# Altium schematic symbol library power.SchLib: 101 symbols
Pins are listed as number, name and electrical type; pins without a type are passive.

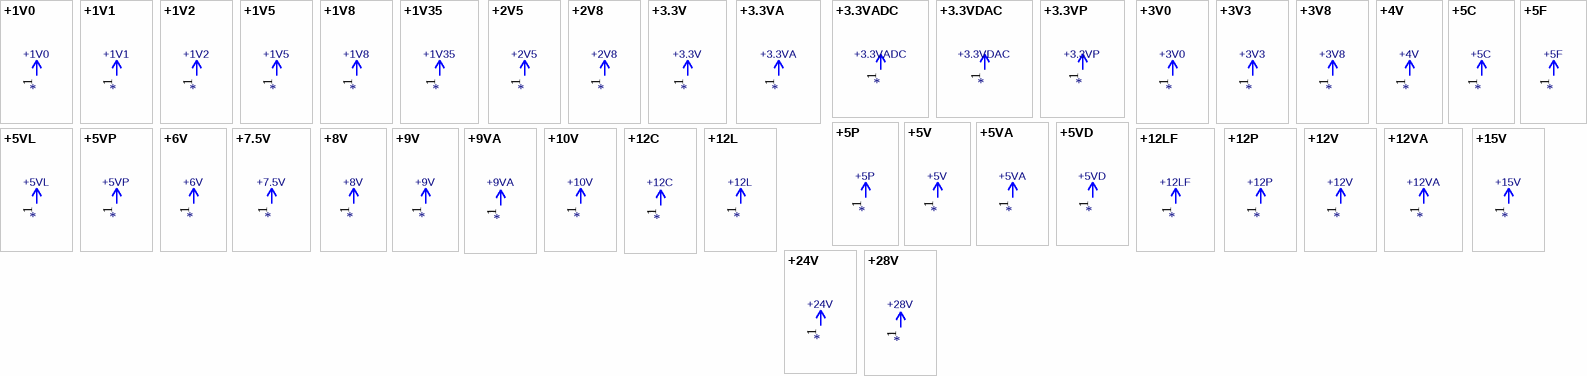
[diagram p0: symbols +1V0 to +28V]

## +1V0
designator *  value +1V0
ki_keywords: power-flag; ki_description: Power symbol creates a global label with name "+1V0"
pins: 1 +1V0 (power)

## +1V1
designator *  value +1V1
ki_keywords: power-flag; ki_description: Power symbol creates a global label with name "+1V1"
pins: 1 +1V1 (power)

## +1V2
designator *  value +1V2
ki_keywords: power-flag; ki_description: Power symbol creates a global label with name "+1V2"
pins: 1 +1V2 (power)

## +1V5
designator *  value +1V5
ki_keywords: power-flag; ki_description: Power symbol creates a global label with name "+1V5"
pins: 1 +1V5 (power)

## +1V8
designator *  value +1V8
ki_keywords: power-flag; ki_description: Power symbol creates a global label with name "+1V8"
pins: 1 +1V8 (power)

## +1V35
designator *  value +1V35
ki_keywords: power-flag; ki_description: Power symbol creates a global label with name "+1V35"
pins: 1 +1V35 (power)

## +2V5
designator *  value +2V5
ki_keywords: power-flag; ki_description: Power symbol creates a global label with name "+2V5"
pins: 1 +2V5 (power)

## +2V8
designator *  value +2V8
ki_keywords: power-flag; ki_description: Power symbol creates a global label with name "+2V8"
pins: 1 +2V8 (power)

## +3.3V
designator *  value +3.3V
ki_keywords: power-flag; ki_description: Power symbol creates a global label with name "+3.3V"
pins: 1 +3.3V (power)

## +3.3VA
designator *  value +3.3VA
ki_keywords: power-flag; ki_description: Power symbol creates a global label with name "+3.3VA"
pins: 1 +3.3VA (power)

## +3.3VADC
designator *  value +3.3VADC
ki_keywords: power-flag; ki_description: Power symbol creates a global label with name "+3.3VADC"
pins: 1 +3.3VADC (power)

## +3.3VDAC
designator *  value +3.3VDAC
ki_keywords: power-flag; ki_description: Power symbol creates a global label with name "+3.3VDAC"
pins: 1 +3.3VDAC (power)

## +3.3VP
designator *  value +3.3VP
ki_keywords: power-flag; ki_description: Power symbol creates a global label with name "+3.3VP"
pins: 1 +3.3VP (power)

## +3V0
designator *  value +3V0
ki_keywords: power-flag; ki_description: Power symbol creates a global label with name "+3V0"
pins: 1 +3V0 (power)

## +3V3
designator *  value +3V3
ki_keywords: power-flag; ki_description: Power symbol creates a global label with name "+3V3"
pins: 1 +3V3 (power)

## +3V8
designator *  value +3V8
ki_keywords: power-flag; ki_description: Power symbol creates a global label with name "+3V8"
pins: 1 +3V8 (power)

## +4V
designator *  value +4V
ki_keywords: power-flag; ki_description: Power symbol creates a global label with name "+4V"
pins: 1 +4V (power)

## +5C
designator *  value +5C
ki_keywords: power-flag; ki_description: Power symbol creates a global label with name "+5C"
pins: 1 +5C (power)

## +5F
designator *  value +5F
ki_keywords: power-flag; ki_description: Power symbol creates a global label with name "+5F"
pins: 1 +5F (power)

## +5P
designator *  value +5P
ki_keywords: power-flag; ki_description: Power symbol creates a global label with name "+5P"
pins: 1 +5P (power)

## +5V
designator *  value +5V
ki_keywords: power-flag; ki_description: Power symbol creates a global label with name "+5V"
pins: 1 +5V (power)

## +5VA
designator *  value +5VA
ki_keywords: power-flag; ki_description: Power symbol creates a global label with name "+5VA"
pins: 1 +5VA (power)

## +5VD
designator *  value +5VD
ki_keywords: power-flag; ki_description: Power symbol creates a global label with name "+5VD"
pins: 1 +5VD (power)

## +5VL
designator *  value +5VL
ki_keywords: power-flag; ki_description: Power symbol creates a global label with name "+5VL"
pins: 1 +5VL (power)

## +5VP
designator *  value +5VP
ki_keywords: power-flag; ki_description: Power symbol creates a global label with name "+5VP"
pins: 1 +5VP (power)

## +6V
designator *  value +6V
ki_keywords: power-flag; ki_description: Power symbol creates a global label with name "+6V"
pins: 1 +6V (power)

## +7.5V
designator *  value +7.5V
ki_keywords: power-flag; ki_description: Power symbol creates a global label with name "+7.5V"
pins: 1 +7.5V (power)

## +8V
designator *  value +8V
ki_keywords: power-flag; ki_description: Power symbol creates a global label with name "+8V"
pins: 1 +8V (power)

## +9V
designator *  value +9V
ki_keywords: power-flag; ki_description: Power symbol creates a global label with name "+9V"
pins: 1 +9V (power)

## +9VA
designator *  value +9VA
ki_keywords: power-flag; ki_description: Power symbol creates a global label with name "+9VA"
pins: 1 +9VA (power)

## +10V
designator *  value +10V
ki_keywords: power-flag; ki_description: Power symbol creates a global label with name "+10V"
pins: 1 +10V (power)

## +12C
designator *  value +12C
ki_keywords: power-flag; ki_description: Power symbol creates a global label with name "+12C"
pins: 1 +12C (power)

## +12L
designator *  value +12L
ki_keywords: power-flag; ki_description: Power symbol creates a global label with name "+12L"
pins: 1 +12L (power)

## +12LF
designator *  value +12LF
ki_keywords: power-flag; ki_description: Power symbol creates a global label with name "+12LF"
pins: 1 +12LF (power)

## +12P
designator *  value +12P
ki_keywords: power-flag; ki_description: Power symbol creates a global label with name "+12P"
pins: 1 +12P (power)

## +12V
designator *  value +12V
ki_keywords: power-flag; ki_description: Power symbol creates a global label with name "+12V"
pins: 1 +12V (power)

## +12VA
designator *  value +12VA
ki_keywords: power-flag; ki_description: Power symbol creates a global label with name "+12VA"
pins: 1 +12VA (power)

## +15V
designator *  value +15V
ki_keywords: power-flag; ki_description: Power symbol creates a global label with name "+15V"
pins: 1 +15V (power)

## +24V
designator *  value +24V
ki_keywords: power-flag; ki_description: Power symbol creates a global label with name "+24V"
pins: 1 +24V (power)

## +28V
designator *  value +28V
ki_keywords: power-flag; ki_description: Power symbol creates a global label with name "+28V"
pins: 1 +28V (power)

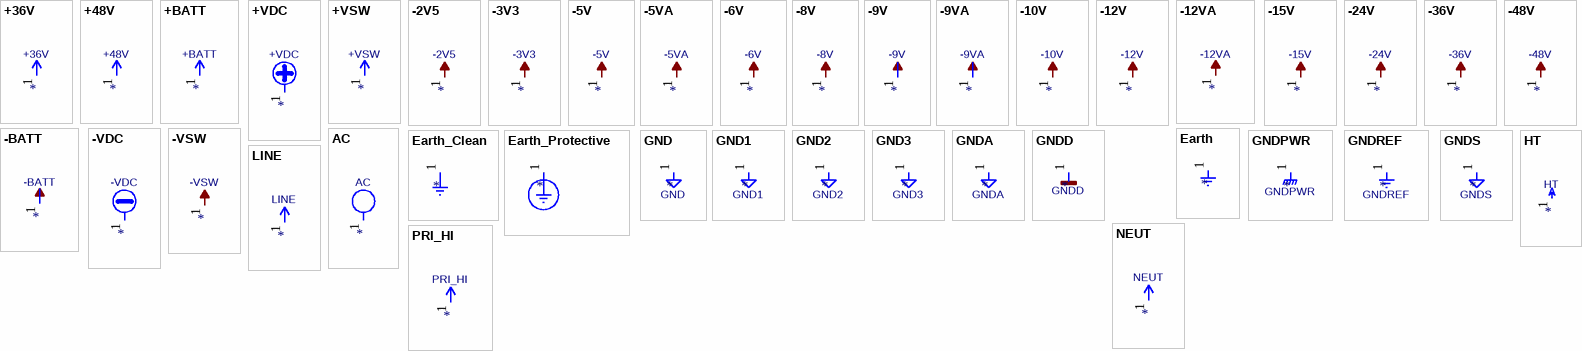
[diagram p1: symbols +36V to PRI_HI]

## +36V
designator *  value +36V
ki_keywords: power-flag; ki_description: Power symbol creates a global label with name "+36V"
pins: 1 +36V (power)

## +48V
designator *  value +48V
ki_keywords: power-flag; ki_description: Power symbol creates a global label with name "+48V"
pins: 1 +48V (power)

## +BATT
designator *  value +BATT
ki_keywords: power-flag battery; ki_description: Power symbol creates a global label with name "+BATT"
pins: 1 +BATT (power)

## +VDC
designator *  value +VDC
ki_keywords: power-flag; ki_description: Power symbol creates a global label with name "+VDC"
pins: 1 +VDC (power)

## +VSW
designator *  value +VSW
ki_keywords: power-flag; ki_description: Power symbol creates a global label with name "+VSW"
pins: 1 +VSW (power)

## -2V5
designator *  value -2V5
ki_keywords: power-flag; ki_description: Power symbol creates a global label with name "-2V5"
pins: 1 -2V5 (power)

## -3V3
designator *  value -3V3
ki_keywords: power-flag; ki_description: Power symbol creates a global label with name "-3V3"
pins: 1 -3V3 (power)

## -5V
designator *  value -5V
ki_keywords: power-flag; ki_description: Power symbol creates a global label with name "-5V"
pins: 1 -5V (power)

## -5VA
designator *  value -5VA
ki_keywords: power-flag; ki_description: Power symbol creates a global label with name "-5VA"
pins: 1 -5VA (power)

## -6V
designator *  value -6V
ki_keywords: power-flag; ki_description: Power symbol creates a global label with name "-6V"
pins: 1 -6V (power)

## -8V
designator *  value -8V
ki_keywords: power-flag; ki_description: Power symbol creates a global label with name "-8V"
pins: 1 -8V (power)

## -9V
designator *  value -9V
ki_keywords: power-flag; ki_description: Power symbol creates a global label with name "-9V"
pins: 1 -9V (power)

## -9VA
designator *  value -9VA
ki_keywords: power-flag; ki_description: Power symbol creates a global label with name "-9VA"
pins: 1 -9VA (power)

## -10V
designator *  value -10V
ki_keywords: power-flag; ki_description: Power symbol creates a global label with name "-10V"
pins: 1 -10V (power)

## -12V
designator *  value -12V
ki_keywords: power-flag; ki_description: Power symbol creates a global label with name "-12V"
pins: 1 -12V (power)

## -12VA
designator *  value -12VA
ki_keywords: power-flag; ki_description: Power symbol creates a global label with name "-12VA"
pins: 1 -12VA (power)

## -15V
designator *  value -15V
ki_keywords: power-flag; ki_description: Power symbol creates a global label with name "-15V"
pins: 1 -15V (power)

## -24V
designator *  value -24V
ki_keywords: power-flag; ki_description: Power symbol creates a global label with name "-24V"
pins: 1 -24V (power)

## -36V
designator *  value -36V
ki_keywords: power-flag; ki_description: Power symbol creates a global label with name "-36V"
pins: 1 -36V (power)

## -48V
designator *  value -48V
ki_keywords: power-flag; ki_description: Power symbol creates a global label with name "-48V"
pins: 1 -48V (power)

## -BATT
designator *  value -BATT
ki_keywords: power-flag battery; ki_description: Power symbol creates a global label with name "-BATT"
pins: 1 -BATT (power)

## -VDC
designator *  value -VDC
ki_keywords: power-flag; ki_description: Power symbol creates a global label with name "-VDC"
pins: 1 -VDC (power)

## -VSW
designator *  value -VSW
ki_keywords: power-flag; ki_description: Power symbol creates a global label with name "-VSW"
pins: 1 -VSW (power)

## AC
designator *  value AC
ki_keywords: power-flag; ki_description: Power symbol creates a global label with name "AC"
pins: 1 AC (power)

## Earth
designator *
Value: Earth; ki_keywords: power-flag ground gnd; ki_description: Power symbol creates a global label with name "Earth"; Supplier: ~
pins: 1 Earth (power)

## Earth_Clean
designator *
Value: Earth_Clean; ki_keywords: power-flag ground gnd clean signal; ki_description: Power symbol creates a global label with name "Earth_Clean"; Supplier: ~
pins: 1 Earth_Clean (power)

## Earth_Protective
designator *
Value: Earth_Protective; ki_keywords: power-flag ground gnd clean; ki_description: Power symbol creates a global label with name "Earth_Protective"; Supplier: ~
pins: 1 Earth_Protective (power)

## GND
designator *  value GND
ki_keywords: power-flag; ki_description: Power symbol creates a global label with name "GND" , ground
pins: 1 GND (power)

## GND1
designator *  value GND1
ki_keywords: power-flag; ki_description: Power symbol creates a global label with name "GND1" , ground
pins: 1 GND1 (power)

## GND2
designator *  value GND2
ki_keywords: power-flag; ki_description: Power symbol creates a global label with name "GND2" , ground
pins: 1 GND2 (power)

## GND3
designator *  value GND3
ki_keywords: power-flag; ki_description: Power symbol creates a global label with name "GND3" , ground
pins: 1 GND3 (power)

## GNDA
designator *  value GNDA
ki_keywords: power-flag; ki_description: Power symbol creates a global label with name "GNDA" , analog ground
pins: 1 GNDA (power)

## GNDD
designator *  value GNDD
ki_keywords: power-flag; ki_description: Power symbol creates a global label with name "GNDD" , digital ground
pins: 1 GNDD (power)

## GNDPWR
designator *  value GNDPWR
ki_keywords: power-flag; ki_description: Power symbol creates a global label with name "GNDPWR" , power ground
pins: 1 GNDPWR (power)

## GNDREF
designator *  value GNDREF
ki_keywords: power-flag; ki_description: Power symbol creates a global label with name "GNDREF" , reference supply ground
pins: 1 GNDREF (power)

## GNDS
designator *  value GNDS
ki_keywords: power-flag; ki_description: Power symbol creates a global label with name "GNDS" , signal ground
pins: 1 GNDS (power)

## HT
designator *  value HT
ki_keywords: power-flag; ki_description: Power symbol creates a global label with name "HT"
pins: 1 HT (power)

## LINE
designator *  value LINE
ki_keywords: power-flag; ki_description: Power symbol creates a global label with name "LINE"
pins: 1 LINE (power)

## NEUT
designator *  value NEUT
ki_keywords: power-flag; ki_description: Power symbol creates a global label with name "NEUT"
pins: 1 NEUT (power)

## PRI_HI
designator *  value PRI_HI
ki_keywords: power-flag; ki_description: Power symbol creates a global label with name "PRI_HI"
pins: 1 PRI_HI (power)

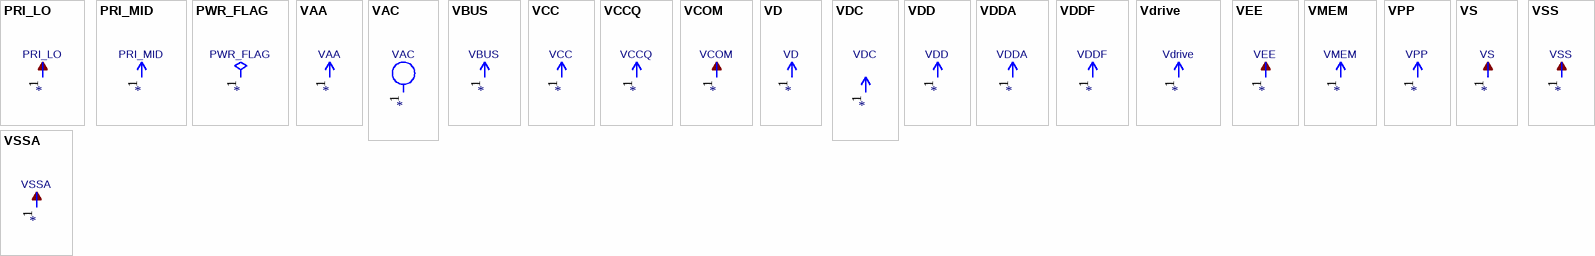
[diagram p2: symbols PRI_LO to VSSA]

## PRI_LO
designator *  value PRI_LO
ki_keywords: power-flag; ki_description: Power symbol creates a global label with name "PRI_LO"
pins: 1 PRI_LO (power)

## PRI_MID
designator *  value PRI_MID
ki_keywords: power-flag; ki_description: Power symbol creates a global label with name "PRI_MID"
pins: 1 PRI_MID (power)

## PWR_FLAG
designator *  value PWR_FLAG
ki_keywords: power-flag; ki_description: Special symbol for telling ERC where power comes from; Supplier: ~
pins: 1 pwr (power)

## VAA
designator *  value VAA
ki_keywords: power-flag; ki_description: Power symbol creates a global label with name "VAA"
pins: 1 VAA (power)

## VAC
designator *  value VAC
ki_keywords: power-flag; ki_description: Power symbol creates a global label with name "VAC"
pins: 1 VAC (power)

## VBUS
designator *  value VBUS
ki_keywords: power-flag; ki_description: Power symbol creates a global label with name "VBUS"
pins: 1 VBUS (power)

## VCC
designator *  value VCC
ki_keywords: power-flag; ki_description: Power symbol creates a global label with name "VCC"
pins: 1 VCC (power)

## VCCQ
designator *  value VCCQ
ki_keywords: power-flag; ki_description: Power symbol creates a global label with name "VCCQ"
pins: 1 VCCQ (power)

## VCOM
designator *  value VCOM
ki_keywords: power-flag; ki_description: Power symbol creates a global label with name "VCOM"
pins: 1 VCOM (power)

## VD
designator *  value VD
ki_keywords: power-flag; ki_description: Power symbol creates a global label with name "VD"
pins: 1 VD (power)

## VDC
designator *  value VDC
ki_keywords: power-flag; ki_description: Power symbol creates a global label with name "VDC"
pins: 1 VDC (power)

## VDD
designator *  value VDD
ki_keywords: power-flag; ki_description: Power symbol creates a global label with name "VDD"
pins: 1 VDD (power)

## VDDA
designator *  value VDDA
ki_keywords: power-flag; ki_description: Power symbol creates a global label with name "VDDA"
pins: 1 VDDA (power)

## VDDF
designator *  value VDDF
ki_keywords: power-flag; ki_description: Power symbol creates a global label with name "VDDF"
pins: 1 VDDF (power)

## Vdrive
designator *  value Vdrive
ki_keywords: power-flag; ki_description: Power symbol creates a global label with name "Vdrive"
pins: 1 Vdrive (power)

## VEE
designator *  value VEE
ki_keywords: power-flag; ki_description: Power symbol creates a global label with name "VEE"
pins: 1 VEE (power)

## VMEM
designator *  value VMEM
ki_keywords: power-flag; ki_description: Power symbol creates a global label with name "VMEM"
pins: 1 VMEM (power)

## VPP
designator *  value VPP
ki_keywords: power-flag; ki_description: Power symbol creates a global label with name "VPP"
pins: 1 VPP (power)

## VS
designator *  value VS
ki_keywords: power-flag; ki_description: Power symbol creates a global label with name "VS"
pins: 1 VS (power)

## VSS
designator *  value VSS
ki_keywords: power-flag; ki_description: Power symbol creates a global label with name "VSS"
pins: 1 VSS (power)

## VSSA
designator *  value VSSA
ki_keywords: power-flag; ki_description: Power symbol creates a global label with name "VSSA"
pins: 1 VSSA (power)